# Altium integrated library MAX1921EUT18&plus_.IntLib: 2 symbols
Pins are listed as number, name and electrical type; pins without a type are passive.

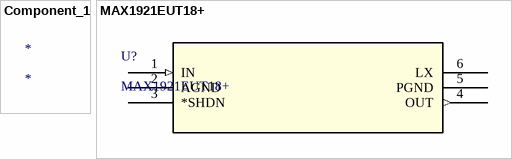
[diagram p0: symbols Component_1 to MAX1921EUT18+]

## Component_1
designator *

## MAX1921EUT18+
designator U?
No Description Available; Mfr_Name: Analog Devices Inc; Copyright: Copyright (C) 2023 Ultra Librarian. All rights reserved.; Manufacturer_Part_Number: MAX1921EUT18+; RefDes: RefDes; Type: DEV
footprint 21-0058I_MXM
pins: 1 IN (in), 2 AGND (power), 3 *SHDN, 4 OUT (out), 5 PGND (power), 6 LX